# Altium schematic symbol library 5013310907.Schlib: 1 symbol
Pins are listed as number, name and electrical type; pins without a type are passive.

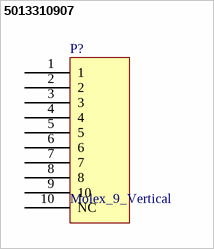
[diagram p0: symbol 5013310907]

## 5013310907
designator P?, comment Molex_9_Vertical
9 Pin Vertical Molex PCB Header
pins: 1, 2, 3, 4, 5, 6, 7, 8, 9 10, 10 NC